# EAGLE library part EC11B (library encoder-alps)
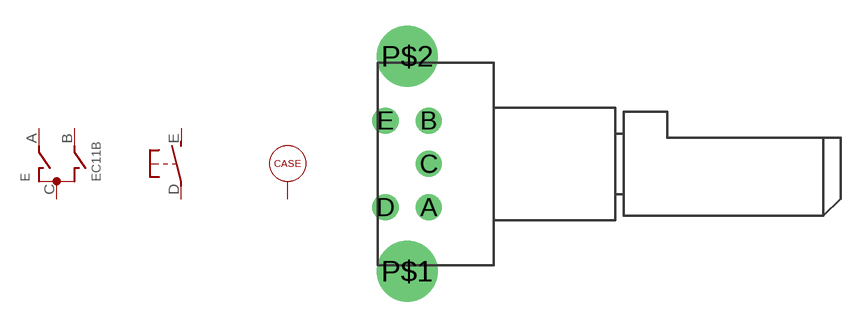
[diagram p0: symbol with the pads of EC11B; footprint EC11B]

Designator prefix E; gates G$1=ENCODER G$2=BUTTON G$3=CASE

## EC11B  [EC11B]
A  G$1:A  pas
B  G$1:B  pas
C  G$1:C  pas
D  G$2:1  pas
E  G$2:2  pas
P$1  G$3:P$1
P$2  G$3:P$1

## Footprint EC11B (pad centres in mm)
drill 1: A 0,-2.5; B 0,2.5; C 0,0; D -2.5,-2.5; E -2.5,2.5
drill 2.5: P$1 -1.25,-6.2; P$2 -1.25,6.2